# EAGLE library part FAN48623UC50X_SWITCHING_REGULATOR (library Joule Expansion Board)
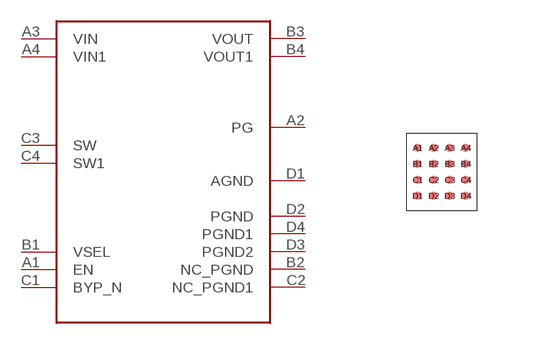
[diagram p15: symbol with the pads of 16-WLCSP; footprint 16-WLCSP]

Designator prefix -

## FAN48623UC50X_SWITCHING_REGULATOR  [16-WLCSP]
A1  EN
A2  PG
A3  VIN
A4  VIN1
B1  VSEL
B2  NC_PGND
B3  VOUT
B4  VOUT1
C1  BYP_N
C2  NC_PGND1
C3  SW
C4  SW1
D1  AGND
D2  PGND
D3  PGND2
D4  PGND1

## Footprint 16-WLCSP (pad centres in mm)
smd 0.2 x 0.2: A1 -0.6,0.6; A2 -0.2,0.6; A3 0.2,0.6; A4 0.6,0.6; B1 -0.6,0.2; B2 -0.2,0.2; B3 0.2,0.2; B4 0.6,0.2; C1 -0.6,-0.2; C2 -0.2,-0.2; C3 0.2,-0.2; C4 0.6,-0.2; D1 -0.6,-0.6; D2 -0.2,-0.6; D3 0.2,-0.6; D4 0.6,-0.6